# EAGLE library part IRS2453 (library irs)
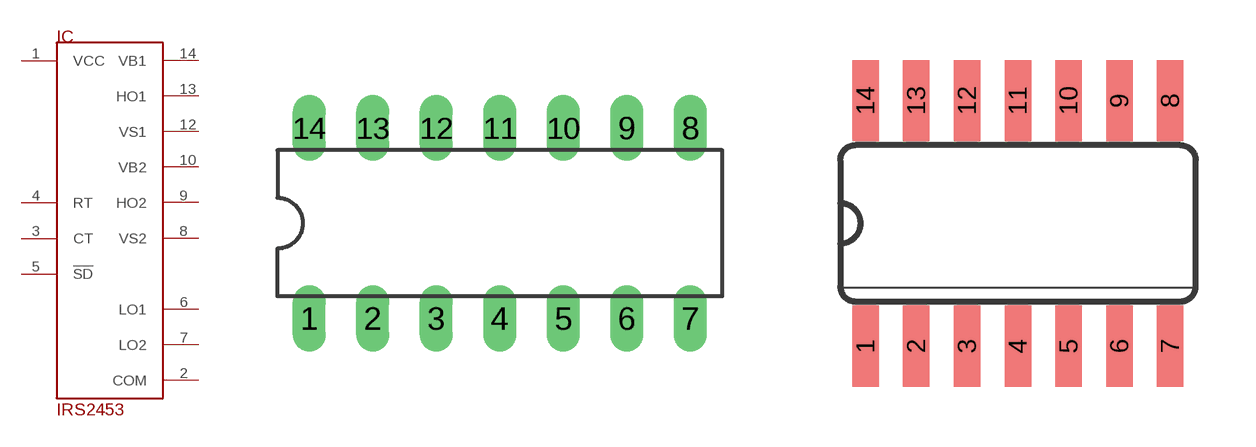
[diagram p7: symbol with the pads of DIL14; footprints DIL14, SO14]

Designator prefix IC

## IRS2453D  [DIL14]
1  VCC  sup
2  COM  sup
3  CT  in
4  RT  out
5  !SD  in
6  LO1  out
7  LO2  out
8  VS2  sup
9  HO2  out
10  VB2  sup
12  VS1  sup
13  HO1  out
14  VB1  sup

## IRS2453S  [SO14]
Pads as for DIL14

## Footprint DIL14 (pad centres in mm)
Dual In Line Package
drill 0.813 long: 1 -7.62,-3.81; 2 -5.08,-3.81; 3 -2.54,-3.81; 4 0,-3.81; 5 2.54,-3.81; 6 5.08,-3.81; 7 7.62,-3.81; 8 7.62,3.81; 9 5.08,3.81; 10 2.54,3.81; 11 0,3.81; 12 -2.54,3.81; 13 -5.08,3.81; 14 -7.62,3.81

## Footprint SO14 (pad centres in mm)
Small Outline package 150 mil
smd 0.66 x 2.032: 1 -3.81,-3.073; 2 -2.54,-3.073; 3 -1.27,-3.073; 4 0,-3.073; 5 1.27,-3.073; 6 2.54,-3.073; 7 3.81,-3.073; 8 3.81,3.073; 9 2.54,3.073; 10 1.27,3.073; 11 0,3.073; 12 -1.27,3.073; 13 -2.54,3.073; 14 -3.81,3.073